# EAGLE library part ROCKETNET-BATTERY-14 (library rocketnet-connector)
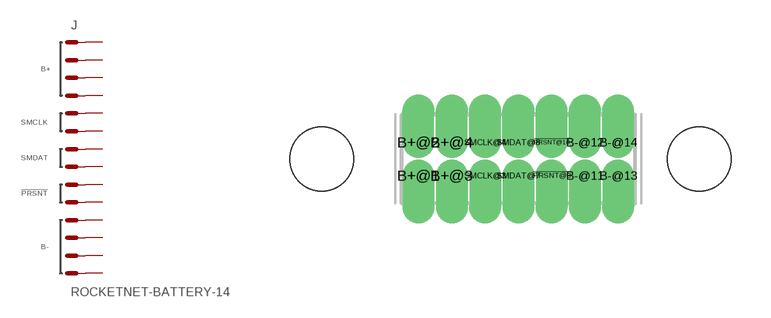
[diagram p1: symbol with the pads of ROCKETNET-M-14; footprint ROCKETNET-M-14]

Designator prefix J

## ROCKETNET-BATTERY-14  [ROCKETNET-M-14]
!PRSNT@9  !PRSNT  pas
!PRSNT@10  !PRSNT  pas
B+@1  B+  pwr
B+@2  B+  pwr
B+@3  B+  pas
B+@4  B+  pas
B-@11  B-  pas
B-@12  B-  pas
B-@13  B-  pas
B-@14  B-  pas
SMCLK@3  SMCLK  pas
SMCLK@4  SMCLK  pas
SMDAT@7  SMDAT  pas
SMDAT@8  SMDAT  pas

## Footprint ROCKETNET-M-14 (pad centres in mm)
drill 0.71 pad 0.95 offset: !PRSNT@9 1.27,-0.635; !PRSNT@10 1.27,0.635; B+@1 -3.81,-0.635; B+@2 -3.81,0.635; B+@3 -2.54,-0.635; B+@4 -2.54,0.635; B-@11 2.54,-0.635; B-@12 2.54,0.635; B-@13 3.81,-0.635; B-@14 3.81,0.635; SMCLK@3 -1.27,-0.635; SMCLK@4 -1.27,0.635; SMDAT@7 0,-0.635; SMDAT@8 0,0.635
hole 2.438 at 6.9,0
hole 2.438 at -7.5,0